# Altium integrated library WE_WR-PHD_Socket Header_1.27 mm_rev15a.IntLib: 17 symbols
Pins are listed as number, name and electrical type; pins without a type are passive.

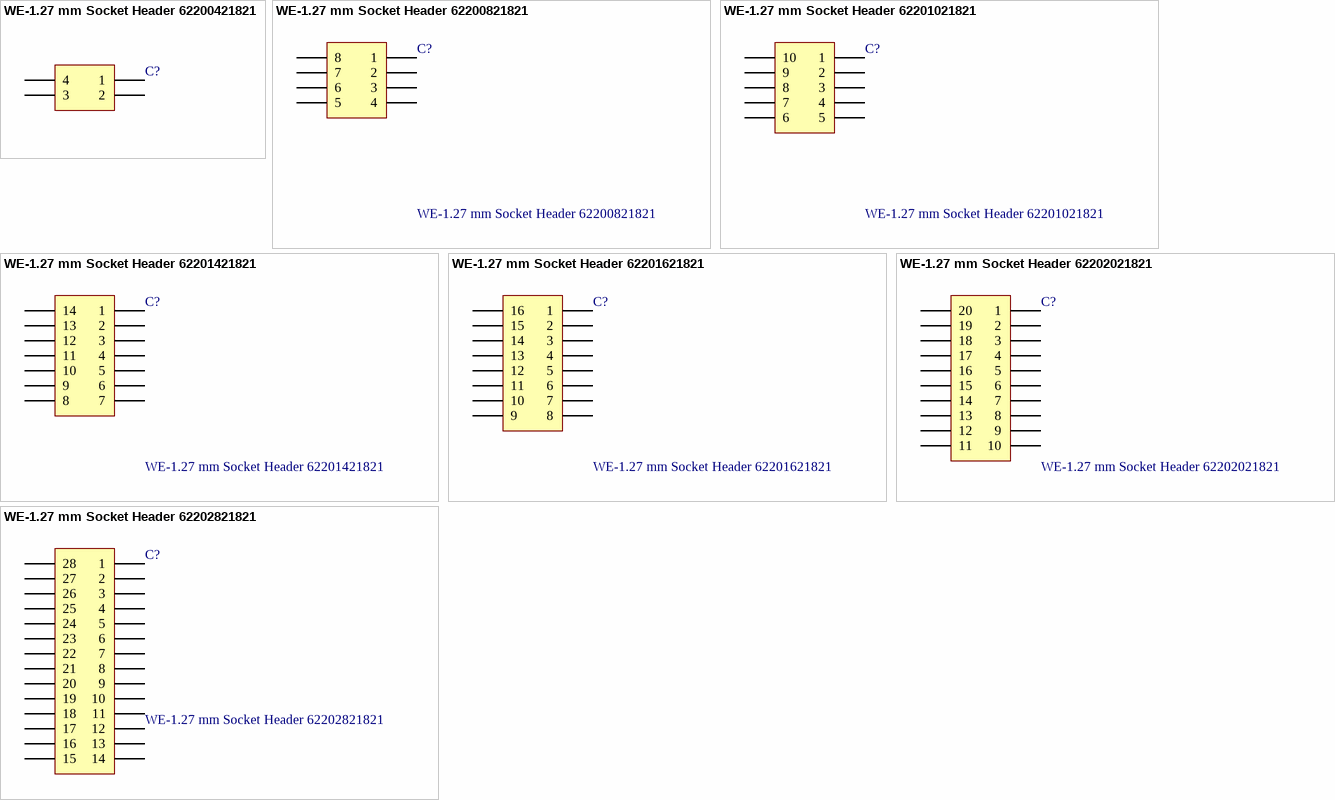
[diagram p0: symbols WE-1.27 mm Socket Header 62200421821 to WE-1.27 mm Socket Header 62202821821]

## WE-1.27 mm Socket Header 62200421821
designator C?
WR-PHD 1.27 mm Dual Socket Header; Manufacturer: Würth Elektronik eiSos GmbH; ComponentLink1 Description: Manufacturer; ComponentLink2 Description: Datasheet; NoPins: 04; Created Date: 8 April 2013; partNo: 62200421821; ComponentLink1URL: http://www.we-online.com; ComponentLink2URL: http://katalog.we-online.de/em/datasheet/6220xx21821.pdf; Created by: Karrer Zheng
footprint 62200421821 (4 pins, dual row, straight, gold plating)
pins: 1, 2, 3, 4

## WE-1.27 mm Socket Header 62200821821
designator C?
WR-PHD 1.27 mm Dual Socket Header; Manufacturer: Würth Elektronik eiSos GmbH; ComponentLink1 Description: Manufacturer; ComponentLink2 Description: Datasheet; NoPins: 08; Created Date: 8 April 2013; partNo: 62200821821; ComponentLink1URL: http://www.we-online.com; ComponentLink2URL: http://katalog.we-online.de/em/datasheet/6220xx21821.pdf; Created by: Karrer Zheng
footprint 62200821821 (8 pins, dual row, straight, gold plating)
pins: 1, 2, 3, 4, 5, 6, 7, 8

## WE-1.27 mm Socket Header 62201021821
designator C?
WR-PHD 1.27 mm Dual Socket Header; Manufacturer: Würth Elektronik eiSos GmbH; ComponentLink1 Description: Manufacturer; ComponentLink2 Description: Datasheet; NoPins: 10; Created Date: 8 April 2013; partNo: 62201021821; ComponentLink1URL: http://www.we-online.com; ComponentLink2URL: http://katalog.we-online.de/em/datasheet/6220xx21821.pdf; Created by: Karrer Zheng
footprint 62201021821 (10 pins, dual row, straight, gold plating)
pins: 1, 2, 3, 4, 5, 6, 7, 8, 9, 10

## WE-1.27 mm Socket Header 62201421821
designator C?
WR-PHD 1.27 mm Dual Socket Header; Manufacturer: Würth Elektronik eiSos GmbH; ComponentLink1 Description: Manufacturer; ComponentLink2 Description: Datasheet; NoPins: 14; Created Date: 8 April 2013; partNo: 62201421821; ComponentLink1URL: http://www.we-online.com; ComponentLink2URL: http://katalog.we-online.de/em/datasheet/6220xx21821.pdf; Created by: Karrer Zheng
footprint 62201421821 (14 pins, dual row, straight, gold plating)
pins: 1, 2, 3, 4, 5, 6, 7, 8, 9, 10, 11, 12, 13, 14

## WE-1.27 mm Socket Header 62201621821
designator C?
WR-PHD 1.27 mm Dual Socket Header; Manufacturer: Würth Elektronik eiSos GmbH; ComponentLink1 Description: Manufacturer; ComponentLink2 Description: Datasheet; NoPins: 16; Created Date: 8 April 2013; partNo: 62201621821; ComponentLink1URL: http://www.we-online.com; ComponentLink2URL: http://katalog.we-online.de/em/datasheet/6220xx21821.pdf; Created by: Karrer Zheng
footprint 62201621821 (16 pins, dual row, straight, gold plating)
pins: 1, 2, 3, 4, 5, 6, 7, 8, 9, 10, 11, 12, 13, 14, 15, 16

## WE-1.27 mm Socket Header 62202021821
designator C?
WR-PHD 1.27 mm Dual Socket Header; Manufacturer: Würth Elektronik eiSos GmbH; ComponentLink1 Description: Manufacturer; ComponentLink2 Description: Datasheet; NoPins: 20; Created Date: 8 April 2013; partNo: 62202021821; ComponentLink1URL: http://www.we-online.com; ComponentLink2URL: http://katalog.we-online.de/em/datasheet/6220xx21821.pdf; Created by: Karrer Zheng
footprint 62202021821 (20 pins, dual row, straight, gold plating)
pins: 1, 2, 3, 4, 5, 6, 7, 8, 9, 10, 11, 12, 13, 14, 15, 16, 17, 18, 19, 20

## WE-1.27 mm Socket Header 62202821821
designator C?
WR-PHD 1.27 mm Dual Socket Header; Manufacturer: Würth Elektronik eiSos GmbH; ComponentLink1 Description: Manufacturer; ComponentLink2 Description: Datasheet; NoPins: 28; Created Date: 8 April 2013; partNo: 62202821821; ComponentLink1URL: http://www.we-online.com; ComponentLink2URL: http://katalog.we-online.de/em/datasheet/6220xx21821.pdf; Created by: Karrer Zheng
footprint 62202821821 (28 pins, dual row, straight, gold plating)
pins: 1, 2, 3, 4, 5, 6, 7, 8, 9, 10, 11, 12, 13, 14, 15, 16, 17, 18, 19, 20, 21, 22, 23, 24, 25, 26, 27, 28


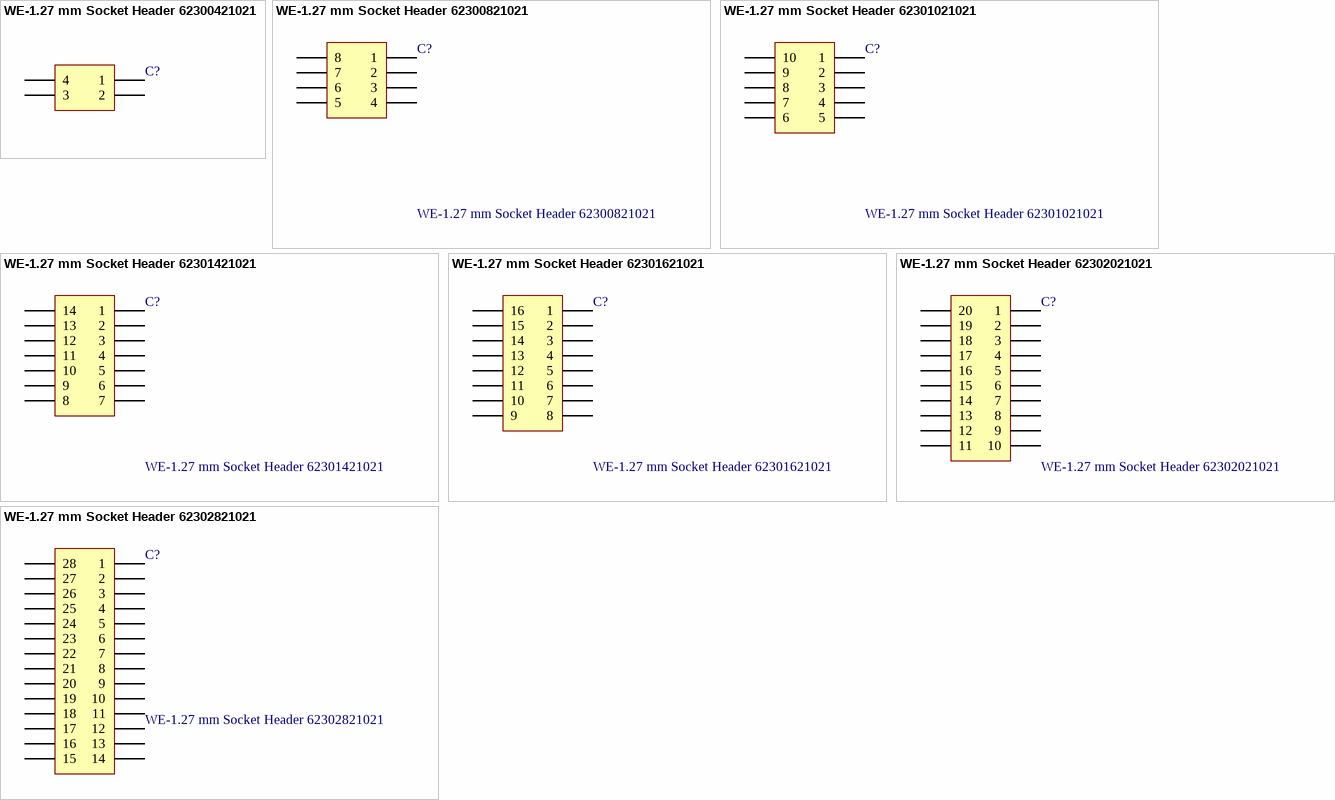
[diagram p1: symbols WE-1.27 mm Socket Header 62300421021 to WE-1.27 mm Socket Header 62302821021]

## WE-1.27 mm Socket Header 62300421021
designator C?
WR-PHD 1.27 mm Dual SMT Socket Header H=4.50mm; Manufacturer: Würth Elektronik eiSos GmbH; ComponentLink1 Description: Manufacturer; ComponentLink2 Description: Datasheet; NoPins: 04; Created Date: 8 April 2013; partNo: 62300421021; ComponentLink1URL: http://www.we-online.com; ComponentLink2URL: http://katalog.we-online.de/em/datasheet/6230xx21021.pdf; Created by: Karrer Zheng
footprint 62300421021 (4 pins, dual row, straight, gold plating)
pins: 1, 2, 3, 4

## WE-1.27 mm Socket Header 62300821021
designator C?
WR-PHD 1.27 mm Dual SMT Socket Header H=4.50mm; Manufacturer: Würth Elektronik eiSos GmbH; ComponentLink1 Description: Manufacturer; ComponentLink2 Description: Datasheet; NoPins: 08; Created Date: 8 April 2013; partNo: 62300821021; ComponentLink1URL: http://www.we-online.com; ComponentLink2URL: http://katalog.we-online.de/em/datasheet/6230xx21021.pdf; Created by: Karrer Zheng
footprint 62300821021 (8 pins, dual row, straight, gold plating)
pins: 1, 2, 3, 4, 5, 6, 7, 8

## WE-1.27 mm Socket Header 62301021021
designator C?
WR-PHD 1.27 mm Dual SMT Socket Header H=4.50mm; Manufacturer: Würth Elektronik eiSos GmbH; ComponentLink1 Description: Manufacturer; ComponentLink2 Description: Datasheet; NoPins: 10; Created Date: 8 April 2013; partNo: 62301021021; ComponentLink1URL: http://www.we-online.com; ComponentLink2URL: http://katalog.we-online.de/em/datasheet/6230xx21021.pdf; Created by: Karrer Zheng
footprint 62301021021 (10 pins, dual row, straight, gold plating)
pins: 1, 2, 3, 4, 5, 6, 7, 8, 9, 10

## WE-1.27 mm Socket Header 62301421021
designator C?
WR-PHD 1.27 mm Dual SMT Socket Header H=4.50mm; Manufacturer: Würth Elektronik eiSos GmbH; ComponentLink1 Description: Manufacturer; ComponentLink2 Description: Datasheet; NoPins: 14; Created Date: 8 April 2013; partNo: 62301421021; ComponentLink1URL: http://www.we-online.com; ComponentLink2URL: http://katalog.we-online.de/em/datasheet/6230xx21021.pdf; Created by: Karrer Zheng
footprint 62301421021 (14 pins, dual row, straight, gold plating)
pins: 1, 2, 3, 4, 5, 6, 7, 8, 9, 10, 11, 12, 13, 14

## WE-1.27 mm Socket Header 62301621021
designator C?
WR-PHD 1.27 mm Dual SMT Socket Header H=4.50mm; Manufacturer: Würth Elektronik eiSos GmbH; ComponentLink1 Description: Manufacturer; ComponentLink2 Description: Datasheet; NoPins: 16; Created Date: 8 April 2013; partNo: 62301621021; ComponentLink1URL: http://www.we-online.com; ComponentLink2URL: http://katalog.we-online.de/em/datasheet/6230xx21021.pdf; Created by: Karrer Zheng
footprint 62301621021 (16 pins, dual row, straight, gold plating)
pins: 1, 2, 3, 4, 5, 6, 7, 8, 9, 10, 11, 12, 13, 14, 15, 16

## WE-1.27 mm Socket Header 62302021021
designator C?
WR-PHD 1.27 mm Dual SMT Socket Header H=4.50mm; Manufacturer: Würth Elektronik eiSos GmbH; ComponentLink1 Description: Manufacturer; ComponentLink2 Description: Datasheet; NoPins: 20; Created Date: 8 April 2013; partNo: 62302021021; ComponentLink1URL: http://www.we-online.com; ComponentLink2URL: http://katalog.we-online.de/em/datasheet/6230xx21021.pdf; Created by: Karrer Zheng
footprint 62302021021 (20 pins, dual row, straight, gold plating)
pins: 1, 2, 3, 4, 5, 6, 7, 8, 9, 10, 11, 12, 13, 14, 15, 16, 17, 18, 19, 20

## WE-1.27 mm Socket Header 62302821021
designator C?
WR-PHD 1.27 mm Dual SMT Socket Header H=4.50mm; Manufacturer: Würth Elektronik eiSos GmbH; ComponentLink1 Description: Manufacturer; ComponentLink2 Description: Datasheet; NoPins: 28; Created Date: 8 April 2013; partNo: 62302821021; ComponentLink1URL: http://www.we-online.com; ComponentLink2URL: http://katalog.we-online.de/em/datasheet/6230xx21021.pdf; Created by: Karrer Zheng
footprint 62302821021 (28 pins, dual row, straight, gold plating)
pins: 1, 2, 3, 4, 5, 6, 7, 8, 9, 10, 11, 12, 13, 14, 15, 16, 17, 18, 19, 20, 21, 22, 23, 24, 25, 26, 27, 28


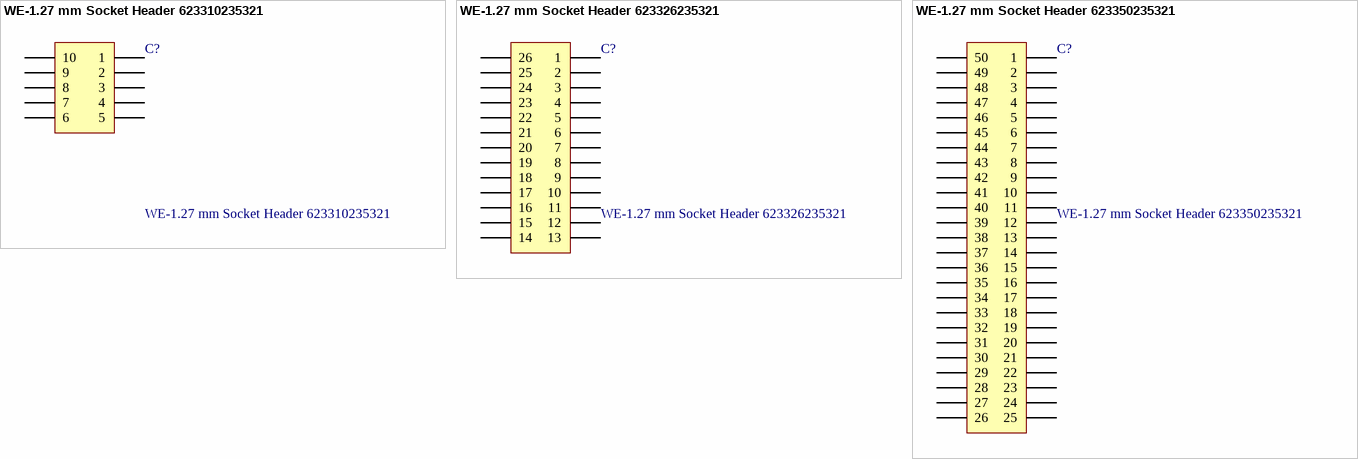
[diagram p2: symbols WE-1.27 mm Socket Header 623310235321 to WE-1.27 mm Socket Header 623350235321]

## WE-1.27 mm Socket Header 623310235321
designator C?
WR-PHD 1.27 mm Dual SMT Socket Header H=2.20mm; Manufacturer: Würth Elektronik eiSos GmbH; ComponentLink1 Description: Manufacturer; ComponentLink2 Description: Datasheet; NoPins: 10; Created Date: 8 April 2013; partNo: 623310235321; ComponentLink1URL: http://www.we-online.com; ComponentLink2URL: http://katalog.we-online.de/em/datasheet/6233xx235321.pdf; Created by: Karrer Zheng
footprint 623310235321 (10 pins, dual row, straight, gold plating)
pins: 1, 2, 3, 4, 5, 6, 7, 8, 9, 10

## WE-1.27 mm Socket Header 623326235321
designator C?
WR-PHD 1.27 mm Dual SMT Socket Header H=2.20mm; Manufacturer: Würth Elektronik eiSos GmbH; ComponentLink1 Description: Manufacturer; ComponentLink2 Description: Datasheet; NoPins: 26; Created Date: 8 April 2013; partNo: 623326235321; ComponentLink1URL: http://www.we-online.com; ComponentLink2URL: http://katalog.we-online.de/em/datasheet/6233xx235321.pdf; Created by: Karrer Zheng
footprint 623326235321 (26 pins, dual row, straight, gold plating)
pins: 1, 2, 3, 4, 5, 6, 7, 8, 9, 10, 11, 12, 13, 14, 15, 16, 17, 18, 19, 20, 21, 22, 23, 24, 25, 26

## WE-1.27 mm Socket Header 623350235321
designator C?
WR-PHD 1.27 mm Dual SMT Socket Header H=2.20mm; Manufacturer: Würth Elektronik eiSos GmbH; ComponentLink1 Description: Manufacturer; ComponentLink2 Description: Datasheet; NoPins: 50; Created Date: 8 April 2013; partNo: 623350235321; ComponentLink1URL: http://www.we-online.com; ComponentLink2URL: http://katalog.we-online.de/em/datasheet/6233xx235321.pdf; Created by: Karrer Zheng
footprint 623350235321 (50 pins, dual row, straight, gold plating)
pins: 1, 2, 3, 4, 5, 6, 7, 8, 9, 10, 11, 12, 13, 14, 15, 16, 17, 18, 19, 20, 21, 22, 23, 24, 25, 26, 27, 28, 29, 30, 31, 32, 33, 34, 35, 36, 37, 38, 39, 40, 41, 42, 43, 44, 45, 46, 47, 48, 49, 50